# Altium footprint library Crystal.PcbLib: 5 footprints
Each footprint in its own frame and in the unit in brackets; x right, y up, seen from the top. Pads: shape width x height; smd on the part's side, far side on the other; paste and mask are expansions set on the pad; w line width, h text height; cw(c..) or ccw(c..) is an arc to the next point about the centre after c.
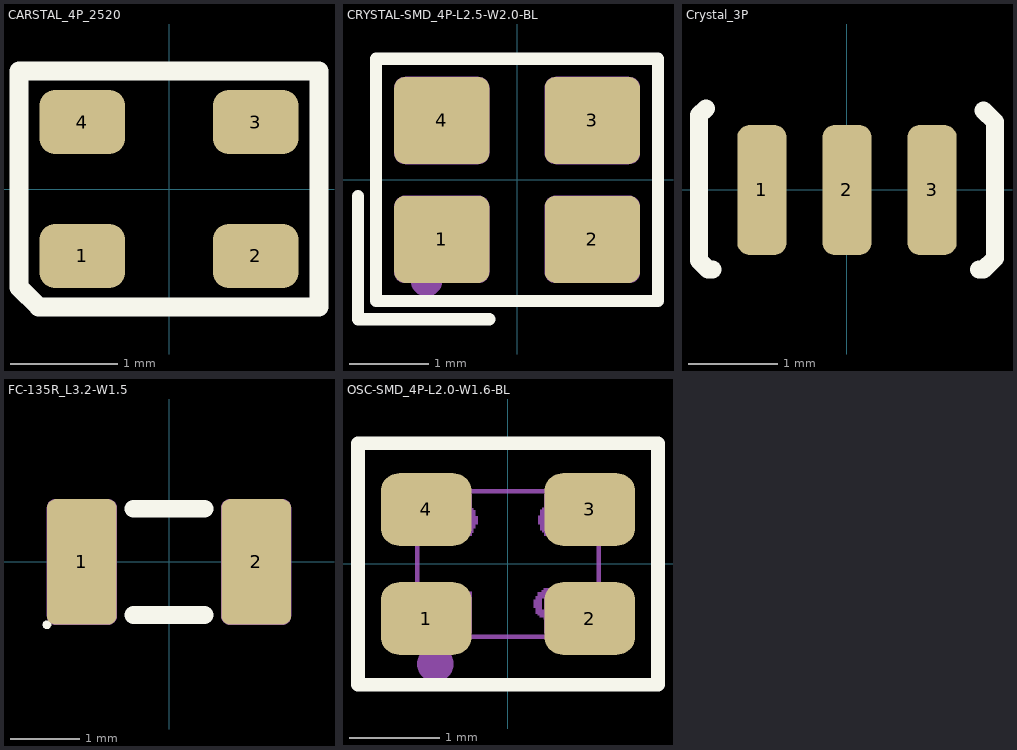
[diagram p0: the footprints below, top view; thin cyan lines are the x and y axes]

## CARSTAL_4P_2520 [mm] "CARSTAL_2520"
height 0.8
pads (4):
  rrect50% 0.8x0.6 smd: 1(-0.81,-0.625) 2(0.81,-0.625) 3(0.81,0.625) 4(-0.81,0.625)
Top Overlay:
  lines w0.178: -1.4,-0.917 -1.4,1.1 1.4,1.1 1.4,-1.1 -1.217,-1.1 -1.4,-0.917
3D body "User Library-Crystal NDK NX2520SA series.STEP": height 0.55, standoff 0, extent -1.3,-1.05 1.3,1.05

## CRYSTAL-SMD_4P-L2.5-W2.0-BL [mm] "SMD-4P; SMD2520-4P; SMD; SMD2016-4P; 2520; SMD-4_2520; clk_2520; SMD_2520; SMD-2520_4P; osc-SMD-3225_4P; CRYSTAL_SMD2520; X25F-G20SSA-25M; SMD2520-4; CRYSTAL-SMD_4P-L2.5-W2.0-BL; SMD-2520-4P"
height -909.212
pads (4):
  rrect25% 1.2x1.1 smd mask+0.05: 1(-0.95,-0.75) 2(0.95,-0.75) 3(0.95,0.75) 4(-0.95,0.75)
Top Overlay:
  region: -1.19,-1 -1.191,-0.988 -1.195,-0.977 -1.2,-0.967 -1.208,-0.958 -1.217,-0.95 -1.227,-0.945 -1.238,-0.941 -1.25,-0.94 -1.262,-0.941 -1.273,-0.945 -1.283,-0.95 -1.292,-0.958 -1.3,-0.967 -1.305,-0.977 -1.309,-0.988 -1.31,-1 -1.309,-1.012 -1.305,-1.023 -1.3,-1.033 -1.292,-1.042 -1.283,-1.05 -1.273,-1.055 -1.262,-1.059 -1.25,-1.06 -1.238,-1.059 -1.227,-1.055 -1.217,-1.05 -1.208,-1.042 -1.2,-1.033 -1.195,-1.023 -1.191,-1.012
  lines w0.152: -2.007,-0.201 -2.007,-1.758 -0.351,-1.758 ; -1.779,-1.529 1.779,-1.529 1.779,1.529 -1.779,1.529 -1.779,-1.529
Mechanical 2:
  circle w0.2: c-1.143,-1.27 r0.1
Mechanical 9:
  drawing of 4 lines, arcs and shapes, not listed
3D body "CRYSTAL-SMD_4P-L2.5-W2.0-BL.step": height 1, standoff 0, extent -1.25,-1 1.25,1

## Crystal_3P [mm] "村田三脚贴片晶振"
height 4.3
pads (3):
  rrect50% 0.55x1.45 smd: 1(-0.95,0) 2(0,0) 3(0.95,0)
Top Overlay:
  lines w0.2: -1.576,0.911 -1.651,0.836 -1.651,-0.789 -1.551,-0.889 -1.501,-0.889 ; 1.474,-0.889 1.524,-0.889 1.651,-0.762 1.651,0.762 1.524,0.889
3D body: height 0, standoff 0, extent 1.474,-0.89 1.652,0.89
3D body: height 0, standoff 0, extent 1.474,-0.89 1.652,0.89
3D body "123123123.stp": height 0.7, standoff 0, extent -1.6,-0.65 1.6,0.65

## FC-135R_L3.2-W1.5 [mm] "SMD3215-2P"
height -909.212
pads (2):
  rrect25% 1x1.8 smd mask+0.05: 1(-1.25,0) 2(1.25,0)
Top Overlay:
  region: -1.69,-0.9 -1.691,-0.888 -1.695,-0.877 -1.7,-0.867 -1.708,-0.858 -1.717,-0.85 -1.727,-0.845 -1.738,-0.841 -1.75,-0.84 -1.762,-0.841 -1.773,-0.845 -1.783,-0.85 -1.792,-0.858 -1.8,-0.867 -1.805,-0.877 -1.809,-0.888 -1.81,-0.9 -1.809,-0.912 -1.805,-0.923 -1.8,-0.933 -1.792,-0.942 -1.783,-0.95 -1.773,-0.955 -1.762,-0.959 -1.75,-0.96 -1.738,-0.959 -1.727,-0.955 -1.717,-0.95 -1.708,-0.942 -1.7,-0.933 -1.695,-0.923 -1.691,-0.912
  lines w0.254: -0.508,-0.762 0.508,-0.762 ; -0.508,0.762 0.508,0.762
Mechanical 9:
  region: -0.75,-0.775 -0.75,0.775 -0.752,0.799 -0.76,0.823 -0.771,0.844 -0.787,0.863 -0.806,0.879 -0.827,0.89 -0.851,0.897 -0.875,0.9 -1.625,0.9 -1.649,0.897 -1.673,0.89 -1.695,0.879 -1.713,0.863 -1.729,0.844 -1.741,0.823 -1.748,0.799 -1.75,0.775 -1.75,-0.775 -1.748,-0.8 -1.741,-0.823 -1.729,-0.845 -1.713,-0.864 -1.695,-0.879 -1.673,-0.891 -1.649,-0.898 -1.625,-0.9 -0.875,-0.9 -0.851,-0.898 -0.827,-0.891 -0.806,-0.879 -0.787,-0.864 -0.771,-0.845 -0.76,-0.823 -0.752,-0.8 -0.75,-0.775
  region: 1.75,-0.775 1.75,0.775 1.748,0.799 1.741,0.823 1.729,0.844 1.713,0.863 1.695,0.879 1.673,0.89 1.649,0.897 1.625,0.9 0.875,0.9 0.851,0.897 0.827,0.89 0.806,0.879 0.787,0.863 0.771,0.844 0.76,0.823 0.752,0.799 0.75,0.775 0.75,-0.775 0.752,-0.8 0.76,-0.823 0.771,-0.845 0.787,-0.864 0.806,-0.879 0.827,-0.891 0.851,-0.898 0.875,-0.9 1.625,-0.9 1.649,-0.898 1.673,-0.891 1.695,-0.879 1.713,-0.864 1.729,-0.845 1.741,-0.823 1.748,-0.8 1.75,-0.775
3D body "FC-135R_L3.2-W1.5.step": height 1, standoff 0, extent -1.75,-0.9 1.75,0.9

## OSC-SMD_4P-L2.0-W1.6-BL [mm]
pads (4):
  rrect50% 1x0.8 smd mask+0.051: 1(-0.9,-0.6) 2(0.9,-0.6) 3(0.9,0.6) 4(-0.9,0.6)
Top Overlay:
  lines w0.152: -1.651,-1.328 -1.651,1.328 1.651,1.328 1.651,-1.328 -1.529,-1.328 -1.651,-1.328
Mechanical 6:
  drawing of 242 lines, arcs and shapes, not listed
Mechanical 15:
  region: 0.975,0.767 0.975,0.31 0.4,0.31 0.4,0.767
  region: -0.975,-0.764 -0.975,-0.307 -0.4,-0.307 -0.4,-0.764
  region: 0.4,-0.764 0.4,-0.307 0.975,-0.307 0.975,-0.764
  region: -0.4,0.767 -0.4,0.31 -0.975,0.31 -0.975,0.767
  region: -0.94,-0.8 -0.94,-0.775 -0.975,-0.74 -1.025,-0.74 -1.06,-0.775 -1.06,-0.8 -1.06,-0.825 -1.025,-0.86 -0.975,-0.86 -0.94,-0.825 -0.94,-0.8
  lines w0.051: -1,-0.8 1,-0.8 1,0.8 -1,0.8 -1,-0.8